# EAGLE library part HIROSE_DF40-70DP (library rpoddar)
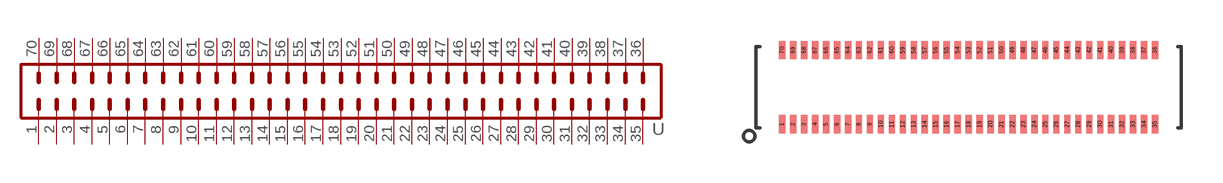
[diagram p1: symbol with the pads of HIROSE_DF40C-70DP; footprint HIROSE_DF40C-70DP]

Designator prefix -

## HIROSE_DF40-70DP  [HIROSE_DF40C-70DP]
1  1  pas
2  2  pas
3  3  pas
4  4  pas
5  5  pas
6  6  pas
7  7  pas
8  8  pas
9  9  pas
10  10  pas
11  11  pas
12  12  pas
13  13  pas
14  14  pas
15  15  pas
16  16  pas
17  17  pas
18  18  pas
19  19  pas
20  20  pas
21  21  pas
22  22  pas
23  23  pas
24  24  pas
25  25  pas
26  26  pas
27  27  pas
28  28  pas
29  29  pas
30  30  pas
31  31  pas
32  32  pas
33  33  pas
34  34  pas
35  35  pas
36  36  pas
37  37  pas
38  38  pas
39  39  pas
40  40  pas
41  41  pas
42  42  pas
43  43  pas
44  44  pas
45  45  pas
46  46  pas
47  47  pas
48  48  pas
49  49  pas
50  50  pas
51  51  pas
52  52  pas
53  53  pas
54  54  pas
55  55  pas
56  56  pas
57  57  pas
58  58  pas
59  59  pas
60  60  pas
61  61  pas
62  62  pas
63  63  pas
64  64  pas
65  65  pas
66  66  pas
67  67  pas
68  68  pas
69  69  pas
70  70  pas

## Footprint HIROSE_DF40C-70DP (pad centres in mm)
smd 0.23 x 0.66: 1 -6.8,-1.355; 2 -6.4,-1.355; 3 -6,-1.355; 4 -5.6,-1.355; 5 -5.2,-1.355; 6 -4.8,-1.355; 7 -4.4,-1.355; 8 -4,-1.355; 9 -3.6,-1.355; 10 -3.2,-1.355; 11 -2.8,-1.355; 12 -2.4,-1.355; 13 -2,-1.355; 14 -1.6,-1.355; 15 -1.2,-1.355; 16 -0.8,-1.355; 17 -0.4,-1.355; 18 0,-1.355; 19 0.4,-1.355; 20 0.8,-1.355; 21 1.2,-1.355; 22 1.6,-1.355; 23 2,-1.355; 24 2.4,-1.355; 25 2.8,-1.355; 26 3.2,-1.355; 27 3.6,-1.355; 28 4,-1.355; 29 4.4,-1.355; 30 4.8,-1.355; 31 5.2,-1.355; 32 5.6,-1.355; 33 6,-1.355; 34 6.4,-1.355; 35 6.8,-1.355; 36 6.8,1.355; 37 6.4,1.355; 38 6,1.355; 39 5.6,1.355; 40 5.2,1.355; 41 4.8,1.355; 42 4.4,1.355; 43 4,1.355; 44 3.6,1.355; 45 3.2,1.355; 46 2.8,1.355; 47 2.4,1.355; 48 2,1.355; 49 1.6,1.355; 50 1.2,1.355; 51 0.8,1.355; 52 0.4,1.355; 53 0,1.355; 54 -0.4,1.355; 55 -0.8,1.355; 56 -1.2,1.355; 57 -1.6,1.355; 58 -2,1.355; 59 -2.4,1.355; 60 -2.8,1.355; 61 -3.2,1.355; 62 -3.6,1.355; 63 -4,1.355; 64 -4.4,1.355; 65 -4.8,1.355; 66 -5.2,1.355; 67 -5.6,1.355; 68 -6,1.355; 69 -6.4,1.355; 70 -6.8,1.355